# Altium footprint library LPSON_DIODE.PcbLib: 28 footprints (part 1 of 2)
Each footprint in its own frame and in the unit in brackets; x right, y up, seen from the top. Pads: shape width x height; smd on the part's side, far side on the other; paste and mask are expansions set on the pad; w line width, h text height; cw(c..) or ccw(c..) is an arc to the next point about the centre after c.
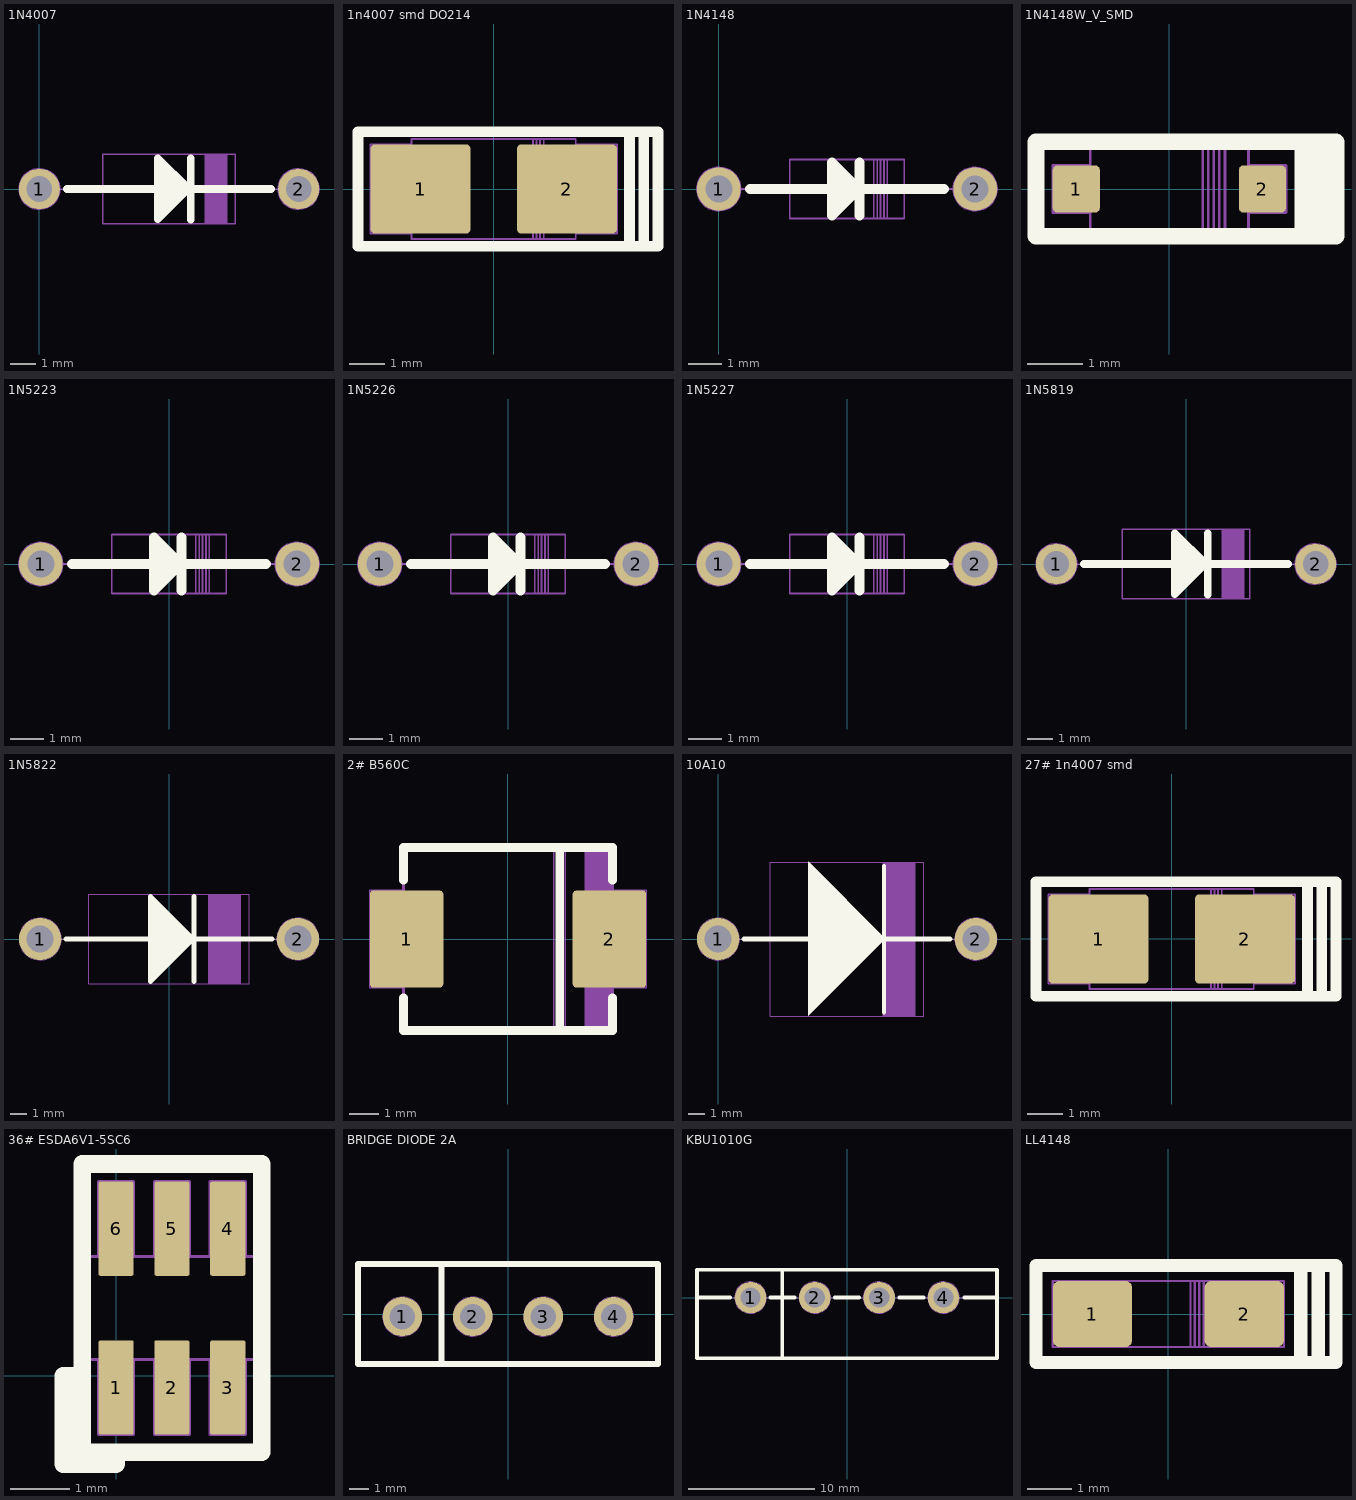
[diagram p0: the footprints below, top view; thin cyan lines are the x and y axes]

## 1N4007 [mm] "DIODE_DIP"
height 2.72
pads (2):
  round 1.6 hole 1 mask+0.1: 1(0,0) 2(10.16,0)
Top Overlay:
  region: 4.64,1.21 4.64,-1.18 4.67,-1.18 5.85,0
  lines w0.3: 1.08,0 9.08,0 ; 5.82,0 4.64,-1.18 4.64,1.21 5.85,0 5.92,0 ; 5.93,-1.2 5.93,1.21
Mechanical 1:
  circle w0.05: c0,0 r0.8
  circle w0.05: c10.16,0 r0.8
  rectangle: 6.477,-1.36 7.366,1.36
  lines w0.05: 0.8,0 2.475,0 ; 7.685,0 9.35,0 ; 2.475,-1.36 7.685,-1.36 7.685,1.36 2.475,1.36 2.475,-1.36
3D body "User Library-1n4007-1.step": height 2.75, standoff -4, extent -0.72,-1.25 10.88,1.25

## 1n4007 smd DO214 [mm] "DO214 4.57x2.79mm"
height 2.3
pads (2):
  rrect10% 2.8x2.5 smd mask+0.1: 1(-2.05,0) 2(2.05,0)
Top Overlay:
  lines w0.3: 3.8,-1.6 3.8,1.6 ; 4.2,-1.6 4.2,1.6 ; 4.6,-1.6 4.6,1.6 ; -3.8,-1.6 -3.8,1.6 4.59,1.6 4.59,-1.6 -3.8,-1.6
Mechanical 2:
  lines w0.05: -2.3,-1.25 -3.45,-1.25 -3.45,1.25 -2.3,1.25 ; 1.1,-1.4 1.1,1.4 ; 1.2,-1.4 1.2,1.4 ; 1.3,-1.4 1.3,1.4 ; 1.4,-1.4 1.4,1.4 ; 2.3,-1.25 3.45,-1.25 3.45,1.25 2.3,1.25 ; -2.3,-1.4 2.3,-1.4 2.3,1.4 -2.3,1.4 -2.3,-1.4
3D body "SW3dPS-DO-214AC SMA.STEP": height 2.5, standoff 0.1, extent -2.6,-1.3 2.6,1.3

## 1N4148 [mm] "DIODE_DIP"
height 1.75
pads (2):
  round 1.3 hole 0.8 mask+0.1: 1(0,0)
  round 1.3 hole 0.8: 2(7.62,0)
Top Overlay:
  region: 3.358,0.786 3.358,-0.786 4.144,0
  lines w0.3: 0.93,0 6.7,0 ; 4.183,-0.786 4.183,0.786 ; 3.358,-0.786 4.144,0 3.358,0.786 3.358,-0.786
Mechanical 1:
  circle w0.05: c0,0 r0.65
  circle w0.05: c7.62,0 r0.65
  lines w0.05: 0.65,0 2.1,0 ; 4.608,-0.875 4.608,0.875 ; 4.708,-0.875 4.708,0.875 ; 4.808,-0.875 4.808,0.875 ; 4.908,-0.875 4.908,0.875 ; 5.508,-0.875 5.508,0.875 ; 5.51,-0.875 2.11,-0.875 2.11,0.875 5.51,0.875 ; 5.51,0 6.97,0 ; 5.008,-0.875 5.008,0.875 5.008,-0.875
  text "K" at 7.5,-0.3 h0.8
  text "A" at -0.2,-0.3 h0.8
3D body "User Library-1n4148-1.step": height 2.5, standoff -4, extent 0.06,-1 7.56,1

## 1N4148W_V_SMD [mm] "SOD-123"
height 1.35
pads (2):
  rrect20% 0.85x0.85 smd mask+0.1: 1(-1.675,0) 2(1.675,0)
Top Overlay:
  lines w0.3: 2.7,-0.85 2.7,0.85 ; 2.4,-0.85 3,-0.85 3,0.85 2.4,0.85 ; 2.4,-0.85 2.4,0.85 ; 2.4,-0.85 -2.4,-0.85 -2.4,0.85 2.4,0.85 ; 2.4,-0.85 2.4,0.85
Mechanical 1:
  lines w0.05: 0.6,-0.85 0.6,0.85 ; 0.7,-0.85 0.7,0.85 ; 0.8,-0.85 0.8,0.85 ; 0.9,-0.85 0.9,0.85 ; -2.1,-0.425 -1.425,-0.425 -1.425,0.425 -2.1,0.425 -2.1,-0.425 ; -1.425,-0.85 -1.425,0.85 1.425,0.85 1.425,-0.85 -1.425,-0.85 ; 1,-0.85 1,0.85 1,-0.85 ; 1.425,-0.425 1.425,0.425 2.1,0.425 2.1,-0.425 1.425,-0.425
3D body "User Library-SOD123.step": height 1.27, standoff 0, extent -1.85,-0.8 1.85,0.8

## 1N5223 [mm] "DIODE_ZENER"
height 1.75
pads (2):
  round 1.3 hole 0.8 mask+0.1: 1(-3.81,0)
  round 1.3 hole 0.8: 2(3.81,0)
Top Overlay:
  region: -0.452,0.786 -0.452,-0.786 0.334,0
  lines w0.3: -2.88,0 2.89,0 ; 0.373,-0.786 0.373,0.786 ; -0.452,-0.786 -0.452,0.786 0.334,0 -0.452,-0.786
Mechanical 1:
  circle w0.05: c3.81,0 r0.65
  circle w0.05: c-3.81,0 r0.65
  lines w0.05: -3.16,0 -1.71,0 ; 0.798,-0.875 0.798,0.875 ; 0.898,-0.875 0.898,0.875 ; 0.998,-0.875 0.998,0.875 ; 1.098,-0.875 1.098,0.875 ; 1.698,-0.875 1.698,0.875 ; 1.7,-0.875 -1.7,-0.875 -1.7,0.875 1.7,0.875 ; 1.7,0 3.16,0 ; 1.198,-0.875 1.198,0.875 1.198,-0.875
3D body "User Library-1n4148-1.step": height 2.5, standoff -4, extent -3.75,-1 3.75,1

## 1N5226 [mm] "DIODE_ZENER 3.3V"
height 1.75
pads (2):
  round 1.3 hole 0.8 mask+0.1: 1(-3.81,0)
  round 1.3 hole 0.8: 2(3.81,0)
Top Overlay:
  region: -0.452,0.786 -0.452,-0.786 0.334,0
  lines w0.3: -2.88,0 2.89,0 ; 0.373,-0.786 0.373,0.786 ; -0.452,-0.786 -0.452,0.786 0.334,0 -0.452,-0.786
Mechanical 1:
  circle w0.05: c3.81,0 r0.65
  circle w0.05: c-3.81,0 r0.65
  lines w0.05: -3.16,0 -1.71,0 ; 0.798,-0.875 0.798,0.875 ; 0.898,-0.875 0.898,0.875 ; 0.998,-0.875 0.998,0.875 ; 1.098,-0.875 1.098,0.875 ; 1.698,-0.875 1.698,0.875 ; 1.7,-0.875 -1.7,-0.875 -1.7,0.875 1.7,0.875 ; 1.7,0 3.16,0 ; 1.198,-0.875 1.198,0.875 1.198,-0.875
3D body "User Library-1n4148-1.step": height 2.5, standoff -4, extent -3.75,-1 3.75,1

## 1N5227 [mm] "DIODE_ZENER 3.6V"
height 1.75
pads (2):
  round 1.3 hole 0.8 mask+0.1: 1(-3.81,0)
  round 1.3 hole 0.8: 2(3.81,0)
Top Overlay:
  region: -0.452,0.786 -0.452,-0.786 0.334,0
  lines w0.3: -2.88,0 2.89,0 ; 0.373,-0.786 0.373,0.786 ; -0.452,-0.786 0.334,0 -0.452,0.786 -0.452,-0.786
Mechanical 1:
  circle w0.05: c-3.81,0 r0.65
  circle w0.05: c3.81,0 r0.65
  lines w0.05: -3.16,0 -1.71,0 ; 0.798,-0.875 0.798,0.875 ; 0.898,-0.875 0.898,0.875 ; 0.998,-0.875 0.998,0.875 ; 1.098,-0.875 1.098,0.875 ; 1.698,-0.875 1.698,0.875 ; 1.7,-0.875 -1.7,-0.875 -1.7,0.875 1.7,0.875 ; 1.7,0 3.16,0 ; 1.198,-0.875 1.198,0.875 1.198,-0.875
3D body "User Library-1n4148-1.step": height 2.5, standoff -4, extent -3.75,-1 3.75,1

## 1N5819 [mm] "DIODE_DIP"
height 2.72
pads (2):
  round 1.6 hole 1 mask+0.1: 1(-5.08,0) 2(5.08,0)
Top Overlay:
  region: -0.44,1.21 -0.44,-1.18 -0.41,-1.18 0.77,0
  lines w0.3: -4,0 4,0 ; 0.74,0 -0.44,-1.18 -0.44,1.21 0.77,0 0.84,0 ; 0.85,-1.2 0.85,1.21
Mechanical 1:
  circle w0.05: c-5.08,0 r0.8
  circle w0.05: c5.08,0 r0.8
  rectangle: 1.397,-1.36 2.286,1.36
  lines w0.05: -4.28,0 -2.505,0 ; 2.505,0 4.27,0 ; -2.505,-1.36 -2.505,1.36 2.505,1.36 2.505,-1.36 -2.505,-1.36
3D body "User Library-1n4007-1.step": height 2.75, standoff -4, extent -5.8,-1.25 5.8,1.25

## 1N5822 [mm] "DIODE_DIP"
height 5.3
pads (2):
  round 2.5 hole 1.6 mask+0.1: 1(-7.62,0) 2(7.62,0)
Top Overlay:
  region: -1.18,2.63 -1.18,-2.62 1.43,-0.01 1.43,0.02
  lines w0.3: -6.09,0 0.381,0 6.09,0 ; 1.475,-2.5 1.475,2.5 ; -1.1,-2.5 1.4,0 -1.1,2.5 -1.1,-2.5
Mechanical 1:
  circle w0.05: c-7.62,0 r1.25
  circle w0.05: c7.62,0 r1.25
  rectangle: 2.3,-2.65 4.25,2.65
  lines w0.05: -6.37,0 -4.75,0 ; 4.75,0 6.36,0 ; -4.75,-2.65 4.75,-2.65 4.75,2.65 -4.75,2.65 -4.75,-2.65

## 2# B560C [mm] "Molded Diode, 2-Leads, Body 6.85x5.90mm, IPC Medium Density"
height 2.5
pads (2):
  rrect10% 2.5x3.3 smd mask+0.15: 1(-3.45,0) 2(3.45,0)
Top Overlay:
  lines w0.3: -3.555,-2 -3.555,-3.11 3.555,-3.11 3.555,-2 ; -3.555,2 -3.555,3.11 3.555,3.11 3.555,2 ; 1.76,-2.99 1.76,3.01
Mechanical 2:
  lines w0.05: -3.555,1.65 -4.7,1.65 -4.7,-1.65 -3.55,-1.65 ; 1.55,-3.11 1.55,3.11 ; 1.75,-3.11 1.75,3.11 ; 1.95,-3.11 1.95,3.11 ; 3.555,-1.65 4.7,-1.65 4.7,1.65 3.555,1.65 ; -3.555,-3.11 3.555,-3.11 3.555,3.11 -3.555,3.11 -3.555,-3.11
  text "K" at 3.82,-0.53 h1.2
  text "A" at -4.52,-0.58 h1.2
Mechanical 13:
  rectangle: 2.599,-3.11 3.555,3.11
  lines w0.1: -3.555,-3.11 3.555,-3.11 3.555,3.11 -3.555,3.11 -3.555,-3.11
3D body "B560C.step": height 2.5, standoff 0, extent -3.775,-3.11 3.775,3.11

## 10A10 [mm] "DIODE_10A"
height 9.1
pads (2):
  round 2.5 hole 1.6 mask+0.1: 1(0,0) 2(15.24,0)
Top Overlay:
  region: 9.895,0.011 5.345,4.561 5.323,4.561 5.323,-4.539 9.768,-0.094 9.768,0.011
  lines w0.254: 9.809,-4.318 9.809,4.318
  lines w0.3: 1.524,0 13.716,0
Mechanical 1:
  circle w0.05: c15.24,0 r1.25
  circle w0.05: c0,0 r1.25
  rectangle: 9.72,-4.55 11.67,4.55
  lines w0.05: 1.25,0 3.07,0 ; 12.17,0 13.97,0 ; 3.07,-4.55 3.07,4.55 12.17,4.55 12.17,-4.55 3.07,-4.55

## 27# 1n4007 smd [mm] "DO214 4.57x2.79mm"
height 2.3
pads (2):
  rrect10% 2.8x2.5 smd mask+0.1: 1(-2.05,0) 2(2.05,0)
Top Overlay:
  lines w0.3: 3.8,-1.6 3.8,1.6 ; 4.2,-1.6 4.2,1.6 ; 4.6,-1.6 4.6,1.6 ; -3.8,-1.6 4.59,-1.6 4.59,1.6 -3.8,1.6 -3.8,-1.6
Mechanical 2:
  lines w0.05: -2.3,-1.25 -3.45,-1.25 -3.45,1.25 -2.3,1.25 ; 1.1,-1.4 1.1,1.4 ; 1.2,-1.4 1.2,1.4 ; 1.3,-1.4 1.3,1.4 ; 1.4,-1.4 1.4,1.4 ; 2.3,-1.25 3.45,-1.25 3.45,1.25 2.3,1.25 ; -2.3,-1.4 -2.3,1.4 2.3,1.4 2.3,-1.4 -2.3,-1.4
3D body "User Library-Diode SMD 1N4007.step": height 2.4, standoff -0.03, extent -2.65,-1.555 2.65,1.555

## 36# ESDA6V1-5SC6 [mm] "SOT23-6L"
height 1.45
pads (6):
  rrect10% 0.6x1.6 smd mask+0.1: 1(0,-0.2) 2(0.95,-0.2) 3(1.9,-0.2) 4(1.9,2.5) 5(0.95,2.5) 6(0,2.5)
Top Overlay:
  lines w0.3: -0.75,0 -0.75,-1.5 0,-1.5 ; -0.6,0 -0.9,0 -0.9,-1.5 0,-1.5 ; 0,-1.5 0,-1.3 0,-1.5 ; -0.575,-1.3 2.475,-1.3 2.475,3.6 -0.575,3.6 -0.575,-1.3
Mechanical 2:
  lines w0.05: -0.3,2.025 -0.3,3.3 0.3,3.3 0.3,2.025 ; 0.65,0.275 0.65,-1 1.25,-1 1.25,0.275 ; 0.65,2.025 0.65,3.3 1.25,3.3 1.25,2.025 ; 1.6,0.275 1.6,-1 2.2,-1 2.2,0.275 ; 1.6,2.025 1.6,3.3 2.2,3.3 2.2,2.025 ; -0.575,0.275 -0.575,2.025 2.475,2.025 2.475,0.275 -0.575,0.275 ; -0.3,-1 -0.3,0.275 0.3,0.275 0.3,-1 -0.3,-1
  text "1" at -0.065,0.5 h0.4
  text "3" at 1.806,0.438 h0.4
  text "4" at 1.806,1.535 h0.4
  text "6" at -0.141,1.514 h0.4
3D body "User Library-SOT-23-6.step": height 1.09, standoff 0, extent -0.457,-0.024 2.337,2.402

## BRIDGE DIODE 2A [mm] "KBP206 bridge diode 2A"
height 12.7
pads (4):
  round 2 hole 1.3 mask+0.1: 1(-5.37,-0.13) 2(-1.79,-0.13) 3(1.79,-0.13) 4(5.37,-0.13)
Top Overlay:
  lines w0.3: -3.38,-2.54 -3.38,2.54 ; 7.62,-2.54 7.62,2.54 ; 7.62,-2.54 -7.62,-2.54 -7.62,2.54 7.62,2.54 ; 7.62,-2.54 7.62,2.54
Mechanical 1:
  circle w0.05: c5.37,-0.13 r1
  circle w0.05: c1.79,-0.13 r1
  circle w0.05: c-1.79,-0.13 r1
  circle w0.05: c-5.37,-0.13 r1
  lines w0.05: -3.38,-2.54 -3.38,2.54 ; 7.62,-2.54 7.62,2.54 ; 7.62,-2.54 -7.62,-2.54 -7.62,2.54 7.62,2.54 ; 7.62,-2.54 7.62,2.54
  text "~" at 1.5,0.2 h1.2
  text "~" at -2.2,0.2 h1.2
  text "-" at 5.1,0.9 h1.2
  text "+" at -5.7,1 h1.2
  text "4" at 4.9,-0.8 h1.2
  text "1" at -5.5,-0.7 h1.2

## KBU1010G [mm] "KBP206 bridge diode 10A"
height 19.8
pads (4):
  round 2.5 hole 1.6 mask+0.1: 1(-7.62,0) 2(-2.54,0) 3(2.54,0) 4(7.62,0)
Top Overlay:
  lines w0.3: -11.85,0 -9.24,0 ; -6.04,0 -4.14,0 ; -5.12,-4.8 -5.12,2.2 ; -0.96,0 0.96,0 ; 4.12,0 6.06,0 ; 9.26,0 11.85,0 ; -11.85,-4.8 11.85,-4.8 11.85,2.2 -11.85,2.2 -11.85,-4.8
Mechanical 1:
  circle w0.05: c7.62,0 r1.25
  circle w0.05: c2.54,0 r1.25
  circle w0.05: c-2.54,0 r1.25
  circle w0.05: c-7.62,0 r1.25
  lines w0.05: -11.85,0 -8.87,0 ; -6.37,0 -3.79,0 ; -5.12,-4.8 -5.12,2.2 ; -1.29,0 1.29,0 ; 3.79,0 6.37,0 ; 8.87,0 11.85,0 ; -11.85,-4.8 11.85,-4.8 11.85,2.2 -11.85,2.2 -11.85,-4.8
  text "+" at -7.92,-2.4 h1
  text "AC" at -3.32,-2.5 h1
  text "AC" at 1.78,-2.5 h1
  text "-" at 7.48,-2.4 h1
  text "4" at 7.28,-0.5 h1
  text "1" at -7.72,-0.5 h1
3D body "User Library-Silicon Bridge Rectifiers KBU1010.step": height 18.65, standoff -23.65, extent -11.6,-4.75 11.6,2.2

## LL4148 [mm] "Small Signal Diode SOD-8"
height 1.5
pads (2):
  rrect20% 1.8x1.5 smd mask+0.1: 1(-1.72,0) 2(1.72,0)
Top Overlay:
  lines w0.3: 3.4,-1.1 3.4,1.1 ; 3,-1.1 -3,-1.1 -3,1.1 3,1.1 ; 3,-1.1 3,1.1 ; 3,-1.1 3,1.1 ; 3,-1.1 3.8,-1.1 3.8,1.1 3,1.1
Mechanical 1:
  lines w0.05: -0.82,-0.75 -2.62,-0.75 -2.62,0.75 -0.82,0.75 ; 0.5,-0.75 0.5,0.75 ; 0.6,-0.75 0.6,0.75 ; 0.7,-0.75 0.7,0.75 ; 0.8,-0.75 0.8,0.75 ; 0.82,-0.75 2.62,-0.75 2.62,0.75 0.82,0.75 ; 0.9,-0.75 0.9,0.75 ; -1.32,-0.75 -1.32,0.75 1.32,0.75 1.32,-0.75 -1.32,-0.75
3D body "User Library-SOD80C-1.STEP": height 1.6, standoff 0, extent -1.85,-0.8 1.85,0.8